# Altium footprint library lmp7704-sp.PcbLib: 1 footprints
Each footprint in its own frame and in the unit in brackets; x right, y up, seen from the top. Pads: shape width x height; smd on the part's side, far side on the other; paste and mask are expansions set on the pad; w line width, h text height; cw(c..) or ccw(c..) is an arc to the next point about the centre after c.
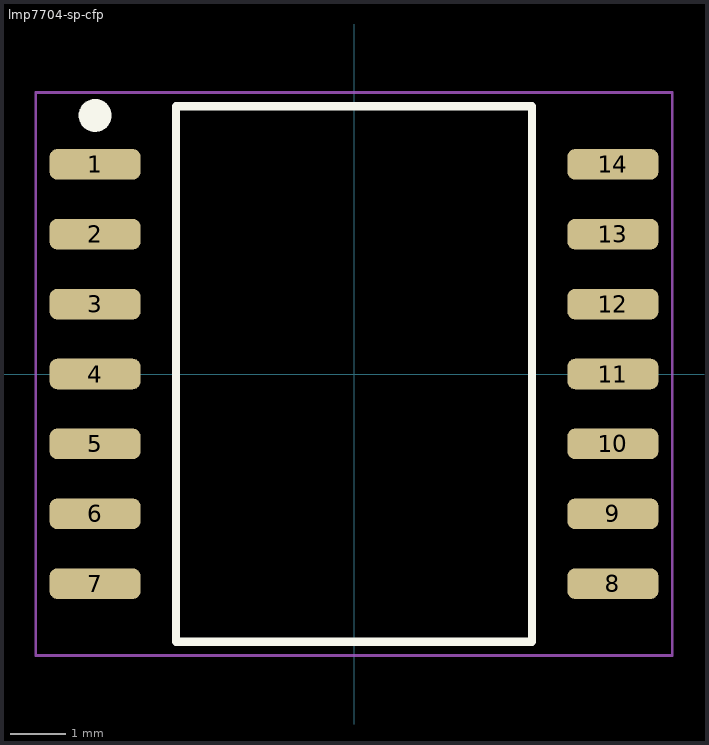
[diagram p0: the footprint, top view; thin cyan lines are the x and y axes]

## lmp7704-sp-cfp [mil] "LMP7704-SP CFP, IPC-7351B density level B. Lead data: TI HKU0010A and U0010A ceramic flat pack drawings in the TPS7A4501-SP datasheet (pitch 1.27, lead width 0.38-0.48, lead thickness 0.10-0.16, untrimmed tip-to-tip 22.7 max, body 6.66-7.06 x 6.77-7.27)"
pads (14):
  rrect50% 65.07x21.83 smd: 1(-185.26,150) 2(-185.26,100) 3(-185.26,50) 4(-185.26,0) 5(-185.26,-50) 6(-185.26,-100) 7(-185.26,-150) 8(185.26,-150) 9(185.26,-100) 10(185.26,-50) 11(185.26,0) 12(185.26,50) 13(185.26,100) 14(185.26,150)
Top Overlay:
  circle w11.81: c-185.26,185 r5.91
  lines w5.91: -127.36,-191.54 127.36,-191.54 127.36,191.54 -127.36,191.54 -127.36,-191.54
  text ".Designator" at -129.92,217.13 h39.37
Mechanical 15:
  lines w1.97: -227.64,-201.38 227.64,-201.38 227.64,201.38 -227.64,201.38 -227.64,-201.38
3D body "lmp7704-sp.step": height 59.06, standoff 0, extent -127.36,-191.54 127.36,191.54